# Altium footprint library 5019.PcbLib: 1 footprints
Each footprint in its own frame and in the unit in brackets; x right, y up, seen from the top. Pads: shape width x height; smd on the part's side, far side on the other; paste and mask are expansions set on the pad; w line width, h text height; cw(c..) or ccw(c..) is an arc to the next point about the centre after c.
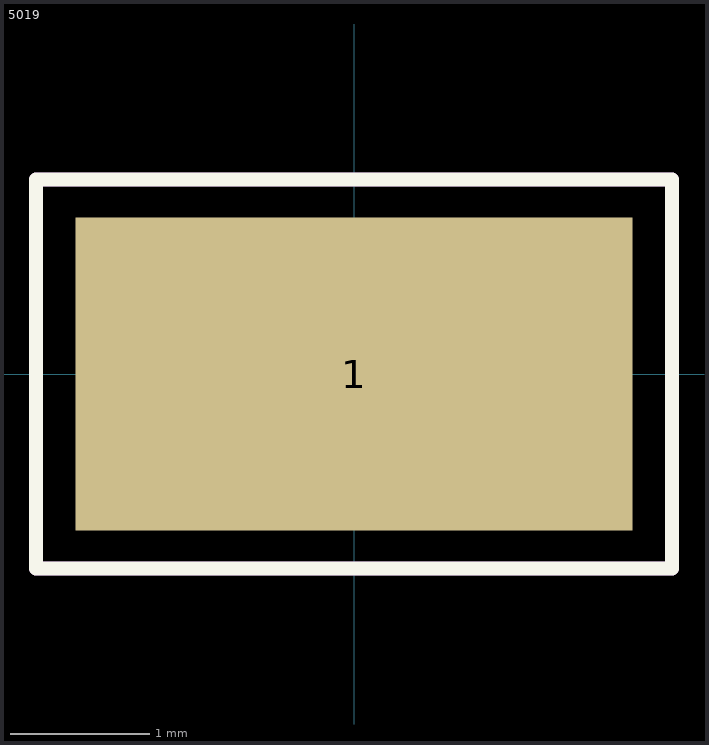
[diagram p0: the footprint, top view; thin cyan lines are the x and y axes]

## 5019 [mm]
pads (1):
  rect 4x2.25 smd: 1(0,0)
Top Overlay:
  lines w0.1: -2.286,-1.397 2.286,-1.397 2.286,1.397 -2.286,1.397 -2.286,-1.397
Mechanical 1:
  lines w0.1: -2.286,-1.397 2.286,-1.397 2.286,1.397 -2.286,1.397 -2.286,-1.397
  text ".Designator" at -2.034,-0.293 h0.65
Mechanical 2:
  lines w0.05: -2.286,-1.397 2.286,-1.397 2.286,1.397 -2.286,1.397 -2.286,-1.397
  lines w0.1: -0.381,0 0,0 ; 0,-0.381 0,0 ; 0,0.381 0,0 ; 0.381,0 0,0
3D body "5019.STEP": height 2.29, standoff 0.01, extent -1.905,-1.015 1.905,1.015